# EAGLE library part MICROSD (library Connectors)
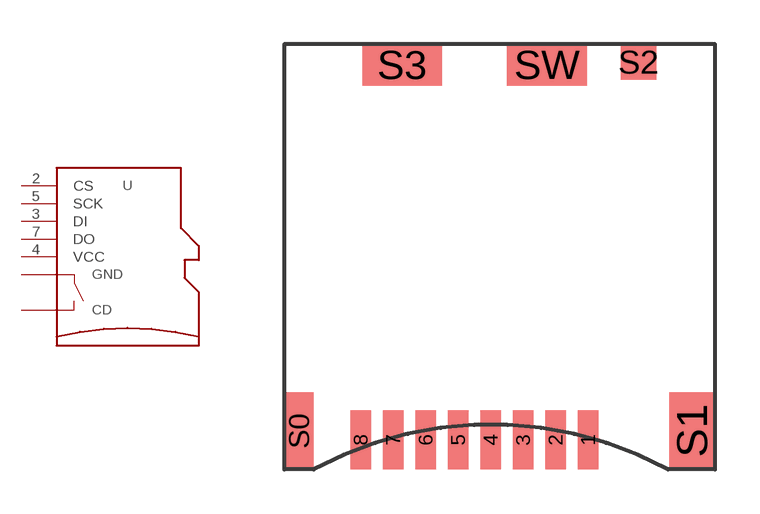
[diagram p42: symbol with the pads of USD,FRONT; footprint USD,FRONT]

Designator prefix U

## MICROSDFRONT  [USD,FRONT]
1  GND
2  CS
3  DI
4  VCC
5  SCK
6  GND
7  DO
8  GND
S0  GND
S1  GND
S2  GND
S3  GND
SW  CD

## Footprint USD,FRONT (pad centres in mm)
smd 0.7 x 2: 1 3,-6.2; 2 1.9,-6.2; 3 0.8,-6.2; 4 -0.3,-6.2; 5 -1.4,-6.2; 6 -2.5,-6.2; 7 -3.6,-6.2; 8 -4.7,-6.2
smd 1 x 2.6: S0 -6.8,-5.9
smd 1.5 x 2.6: S1 6.5,-5.9
smd 1.2 x 1.2: S2 4.7,6.6
smd 2.7 x 1.4: S3 -3.3,6.5; SW 1.6,6.5